# Altium footprint library push.PcbLib: 1 footprints
Each footprint in its own frame and in the unit in brackets; x right, y up, seen from the top. Pads: shape width x height; smd on the part's side, far side on the other; paste and mask are expansions set on the pad; w line width, h text height; cw(c..) or ccw(c..) is an arc to the next point about the centre after c.
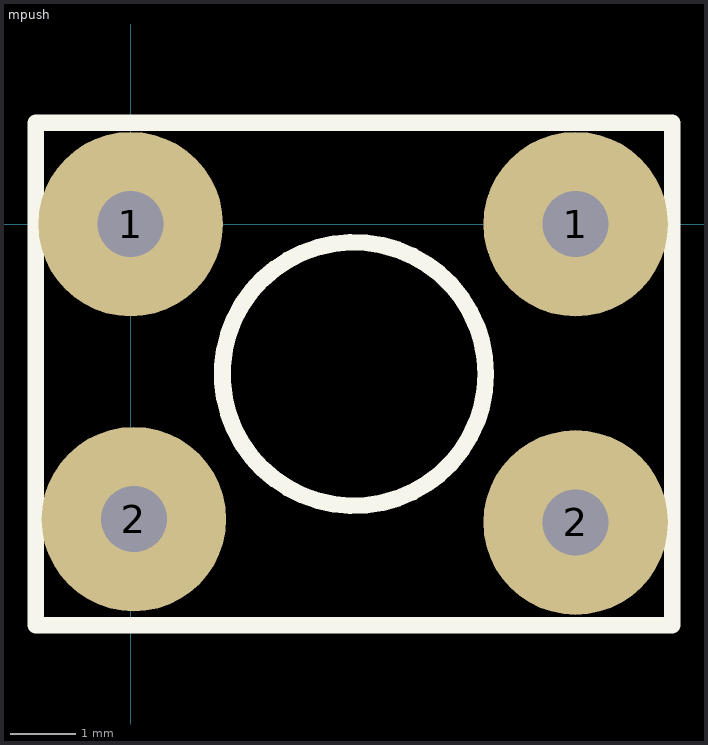
[diagram p0: the footprint, top view; thin cyan lines are the x and y axes]

## mpush [mm]
pads (4):
  round 2.8 hole 1: 1(0,0) 1(6.75,0) 2(0.05,-4.475) 2(6.75,-4.525)
Top Overlay:
  circle w0.254: c3.388,-2.273 r1.998
  lines w0.254: -1.438,-6.083 8.214,-6.083 8.214,1.537 -1.438,1.537 -1.438,-6.083
3D body: height 9.6, standoff -3.4, extent -0.662,-5.225 7.55,0.775